# Altium footprint library TSSOP14_AD.PcbLib: 1 footprints
Each footprint in its own frame and in the unit in brackets; x right, y up, seen from the top. Pads: shape width x height; smd on the part's side, far side on the other; paste and mask are expansions set on the pad; w line width, h text height; cw(c..) or ccw(c..) is an arc to the next point about the centre after c.
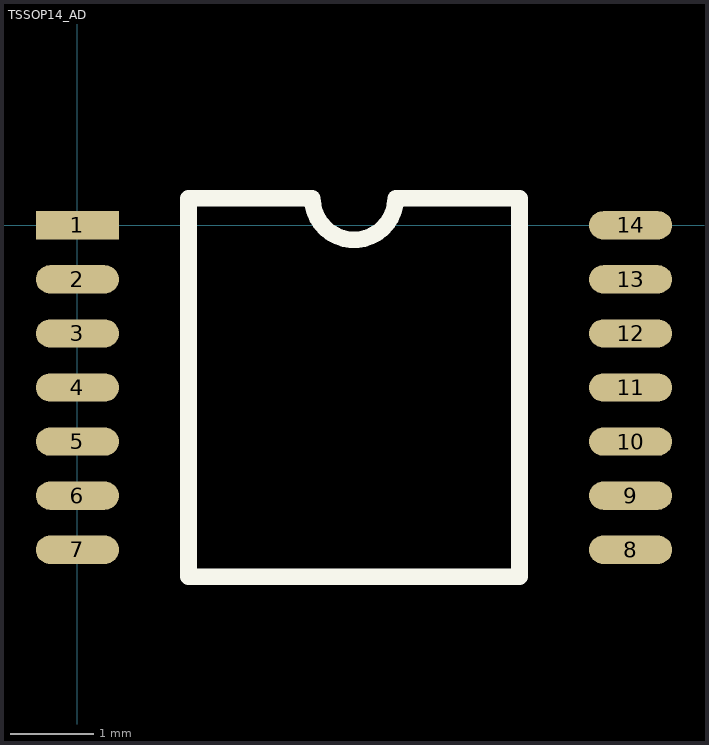
[diagram p0: the footprint, top view; thin cyan lines are the x and y axes]

## TSSOP14_AD [mm]
pads (14):
  rect 1x0.34 smd: 1(0,0)
  oval 1x0.34 smd: 2(0,-0.65) 3(0,-1.3) 4(0,-1.95) 5(0,-2.6) 6(0,-3.25) 7(0,-3.9) 8(6.65,-3.9) 9(6.65,-3.25) 10(6.65,-2.6) 11(6.65,-1.95) 12(6.65,-1.3) 13(6.65,-0.65) 14(6.65,0)
Top Overlay:
  lines w0.2: 1.335,-4.225 5.315,-4.225 5.315,0.325 3.825,0.325 cw(c3.325,0.325) 2.825,0.325 1.335,0.325 1.335,-4.225